# Altium footprint library thesis.PcbLib: 38 footprints (part 3 of 3)
Each footprint in its own frame and in the unit in brackets; x right, y up, seen from the top. Pads: shape width x height; smd on the part's side, far side on the other; paste and mask are expansions set on the pad; w line width, h text height; cw(c..) or ccw(c..) is an arc to the next point about the centre after c.
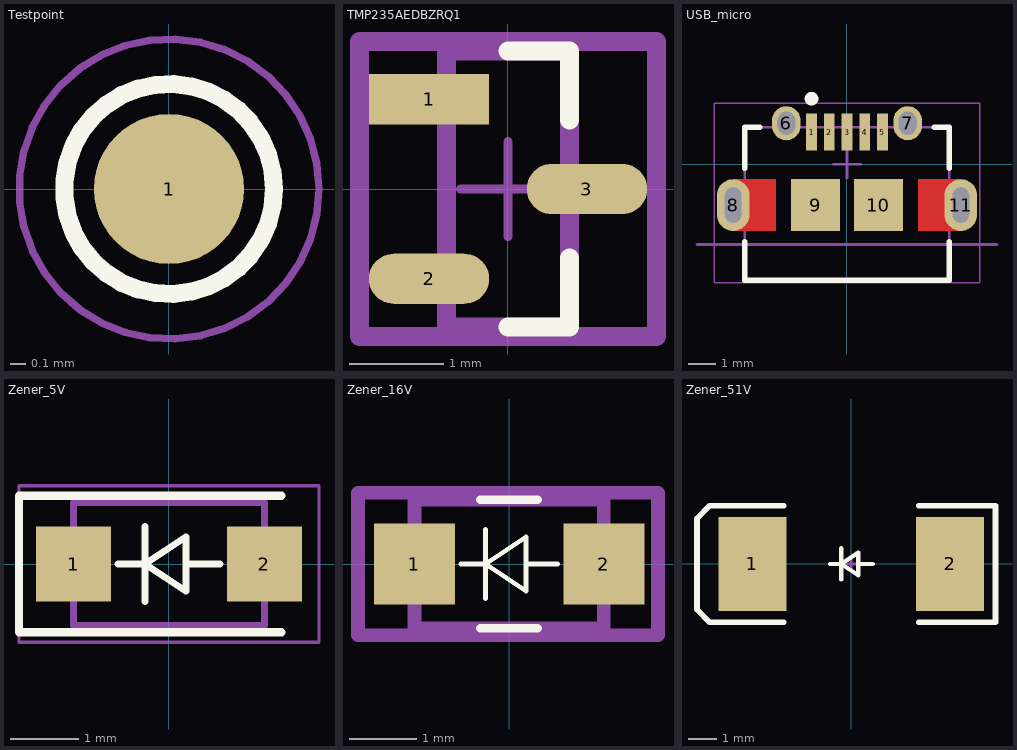
[diagram p2: the footprints below, top view; thin cyan lines are the x and y axes]

## Testpoint [mm]
pads (1):
  round 1 smd paste-1 mask+0: 1(0,0)
Top Overlay:
  circle w0.12: c0,0 r0.7
Mechanical 4:
  circle w0.05: c0,0 r1
Mechanical 6:
  text "'.Designator'" at -1.27,1.27 h1

## TMP235AEDBZRQ1 [mm]
pads (3):
  rect 1.274x0.532 smd paste+0 mask+0: 1(-0.835,0.95)
  rrect100% 1.274x0.532 smd paste+0 mask+0: 2(-0.835,-0.95) 3(0.835,0)
Top Overlay:
  lines w0.2: 0,-1.46 0.65,-1.46 0.65,-0.73 ; 0,1.46 0.65,1.46 0.65,0.73
  text ".Designator" at 0.063,-0.018 h0.25
Top 3D Body:
  lines w0.2: -0.65,-1.46 -0.65,1.46 0.65,1.46 0.65,-1.46 -0.65,-1.46
Top Assembly:
  lines w0.2: -1.572,-1.56 -1.572,1.56 1.572,1.56 1.572,-1.56 -1.572,-1.56
Top Component Center:
  lines w0.1: -0.5,0 0.5,0 ; 0,-0.5 0,0.5
  lines w0.2: -1.572,-1.56 -1.572,1.56 1.572,1.56 1.572,-1.56 -1.572,-1.56
3D body "IC_Texas_Instruments_DRV5032FADBZR_eec.STEP": height 0.25, standoff 0, extent -1.572,-1.56 1.572,1.56

## USB_micro [mm] "SMD, 5-Leads, Body 7.5x5.6mm, Pitch 0.65mm"
height 2.65
pads (11):
  rect 0.4x1.35 smd: 1(-1.3,1.175) 2(-0.65,1.175) 3(0,1.175) 4(0.65,1.175) 5(1.3,1.175)
  oval 1.05x1.25 hole 0.65 slot 0.85 at 90 deg: 6(-2.225,1.5) 7(2.225,1.5)
  oval 1.2x1.9 hole 0.6 slot 1.3 at 90 deg: 8(-4.175,-1.5) 11(4.175,-1.5)
  rect 1.8x1.9 smd: 9(-1.15,-1.5) 10(1.15,-1.5)
Top Layer:
  region: -2.6,-0.55 -4.175,-0.55 -4.175,-2.45 -2.6,-2.45
  rectangle: 2.6,-2.45 4.175,-0.55
Top Overlay:
  circle w0.25: c-1.3,2.4 r0.125
  lines w0.2: -3.75,-2.85 -3.75,-4.25 3.75,-4.25 3.75,-2.85 ; -3.75,-0.15 -3.75,1.35 -3.2,1.35 ; 3.2,1.35 3.75,1.35 3.75,-0.15
  text ".Designator" at -3.188,-0.12 h0.25
Mechanical 1:
  lines w0.1: -5.5,-2.95 5.5,-2.95
Mechanical 13:
  lines w0.1: -3.75,-4.25 -3.75,1.35 3.75,1.35 3.75,-4.25 -3.75,-4.25
Mechanical 15:
  lines w0.05: -4.875,-4.35 4.875,-4.35 4.875,2.225 -4.875,2.225 -4.875,-4.35
  lines w0.1: -0.5,0 0.5,0 ; 0,-0.5 0,0.5
3D body "475890001.stp": height 2.74, standoff -0.57, extent -4.325,-4.25 4.325,1.644

## Zener_5V [mm]
pads (2):
  rect 1.1x1.1 smd mask+0: 1(-1.4,0) 2(1.4,0)
Top Overlay:
  lines w0.1: -0.35,0 0.25,0.4 ; -0.35,0 -0.35,-0.55 -0.35,0 ; -0.35,0 0.25,0.4 ; -0.35,0 0.25,-0.4 ; -0.35,0 0.25,-0.4 ; -0.35,0 -0.75,0 -0.35,0 ; -0.35,0 -0.35,0.55 -0.35,0 ; 0.25,-0.4 0.25,0.4 ; 0.25,-0.4 0.25,0.4 ; 0.25,0 0.75,0 0.25,0
  lines w0.12: 1.65,-1 -2.2,-1 -2.2,1 1.65,1
  text ".Designator" at -1.187,-0.774 h0.25
Mechanical 4:
  lines w0.05: -2.2,-1.15 2.2,-1.15 2.2,1.15 -2.2,1.15 -2.2,-1.15
Mechanical 6:
  lines w0.1: -1.4,-0.9 -1.4,0.9 1.4,0.9 1.4,-0.9 -1.4,-0.9
  text "'.Designator'" at -1.397,1.27 h1
3D body "Diode(SMF5.0A-TP).STEP": height 1.36, standoff 0.01, extent -1.854,-0.825 1.854,0.826

## Zener_16V [mm]
pads (2):
  rect 1.2x1.2 smd paste-1000 mask+0: 1(-1.4,0) 2(1.4,0)
Top Overlay:
  lines w0.076: -0.711,0 -0.35,0 ; -0.35,-0.508 -0.35,0 ; -0.35,0.508 -0.35,0 ; 0.25,0 0.711,0 ; -0.35,0 0.25,-0.4 0.25,0.4 -0.35,0
  lines w0.127: -0.425,-0.95 0.425,-0.95 ; -0.425,0.95 0.425,0.95
  text ".Designator" at -0.127,-0.638 h0.25
Top Paste:
  rectangle: -1.95,-0.55 -0.85,0.55
  rectangle: 0.85,-0.55 1.95,0.55
Top 3D Body:
  lines w0.2: -1.4,-0.95 1.4,-0.95 1.4,0.95 -1.4,0.95 -1.4,-0.95
Top Assembly:
  lines w0.2: -2.235,-1.05 2.2,-1.05 2.2,1.05 -2.235,1.05 -2.235,-1.05
  text ".Designator" at 0,0.188 h1
Top Component Center:
  lines w0.2: -2.235,-1.05 2.2,-1.05 2.2,1.05 -2.235,1.05 -2.235,-1.05
3D body "Diode_Nexperia_PTVS7V0S1UR_115_eec.STEP": height 0.25, standoff 0, extent -2.276,-0.974 2.124,1.126

## Zener_51V [mm] "DO-214AB"
pads (2):
  rect 2.4x3.3 smd: 1(-3.475,0) 2(3.475,0)
Top Overlay:
  lines w0.152: -0.75,0 -0.35,0 ; -0.35,-0.55 -0.35,0 ; -0.35,0.55 -0.35,0 ; 0.25,0 0.75,0 ; -0.35,0 0.25,0.4 0.25,-0.4 -0.35,0
  lines w0.2: -4.975,-2.055 -5.425,-1.6 -5.425,1.6 -4.975,2.05 -2.375,2.05 ; -4.975,-2.05 -2.375,-2.05 ; 2.375,-2.05 5.075,-2.05 5.075,2.05 2.375,2.05
  text ".Designator" at -0.12,-1.028 h0.25
Mechanical 15:
  lines w0.1: -0.2,0 0.2,0 ; 0,-0.2 0,0.2
3D body: height 1, standoff 0.8, extent -3.937,-1.27 -2.921,0.889
3D body: height 0.85, standoff 0, extent -3.937,-1.27 -3.683,0.889
3D body: height 0.3, standoff 0, extent -4.191,-1.27 -3.937,0.889
3D body: height 0.3, standoff 0, extent 3.81,-1.143 4.064,1.016
3D body: height 0.85, standoff 0, extent 3.556,-1.143 3.81,1.016
3D body: height 1, standoff 0.8, extent 2.794,-1.143 3.81,1.016
3D body: height 1.42, standoff 1.39, extent -2.54,-2.731 -1.778,2.73
3D body: height 2.45, standoff 0.05, extent -3.31,-2.921 3.233,2.921